# Altium footprint library SOIC127P1033X264-14N.PcbLib: 1 footprints
Each footprint in its own frame and in the unit in brackets; x right, y up, seen from the top. Pads: shape width x height; smd on the part's side, far side on the other; paste and mask are expansions set on the pad; w line width, h text height; cw(c..) or ccw(c..) is an arc to the next point about the centre after c.
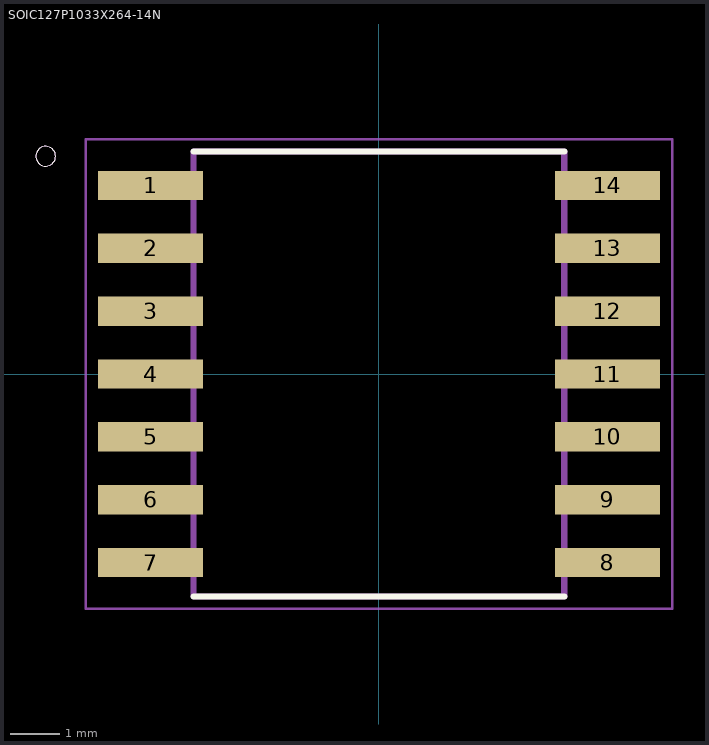
[diagram p0: the footprint, top view; thin cyan lines are the x and y axes]

## SOIC127P1033X264-14N [mm]
pads (14):
  rect 2.12x0.59 smd: 1(-4.615,3.81) 2(-4.615,2.54) 3(-4.615,1.27) 4(-4.615,0) 5(-4.615,-1.27) 6(-4.615,-2.54) 7(-4.615,-3.81) 8(4.615,-3.81) 9(4.615,-2.54) 10(4.615,-1.27) 11(4.615,0) 12(4.615,1.27) 13(4.615,2.54) 14(4.615,3.81)
Top Overlay:
  circle w0: c-6.735,4.4 r0.2
  lines w0.127: -3.746,-4.496 3.746,-4.496 ; -3.746,4.496 3.746,4.496
Mechanical 13:
  circle w0: c-6.735,4.4 r0.2
  circle w0: c-6.735,4.4 r0.2
  lines w0.127: -3.746,-4.496 -3.746,4.496 ; -3.746,-4.496 3.746,-4.496 ; -3.746,-4.496 -3.746,4.496 ; -3.746,-4.496 3.746,-4.496 ; -3.746,4.496 3.746,4.496 ; -3.746,4.496 3.746,4.496 ; 3.746,-4.496 3.746,4.496 ; 3.746,-4.496 3.746,4.496
Mechanical 15:
  lines w0.05: -5.925,-4.746 -5.925,4.746 5.925,4.746 5.925,-4.746 -5.925,-4.746